# Altium footprint library BM1397_TESTBED.PcbLib: 24 footprints (part 1 of 2)
Each footprint in its own frame and in the unit in brackets; x right, y up, seen from the top. Pads: shape width x height; smd on the part's side, far side on the other; paste and mask are expansions set on the pad; w line width, h text height; cw(c..) or ccw(c..) is an arc to the next point about the centre after c.
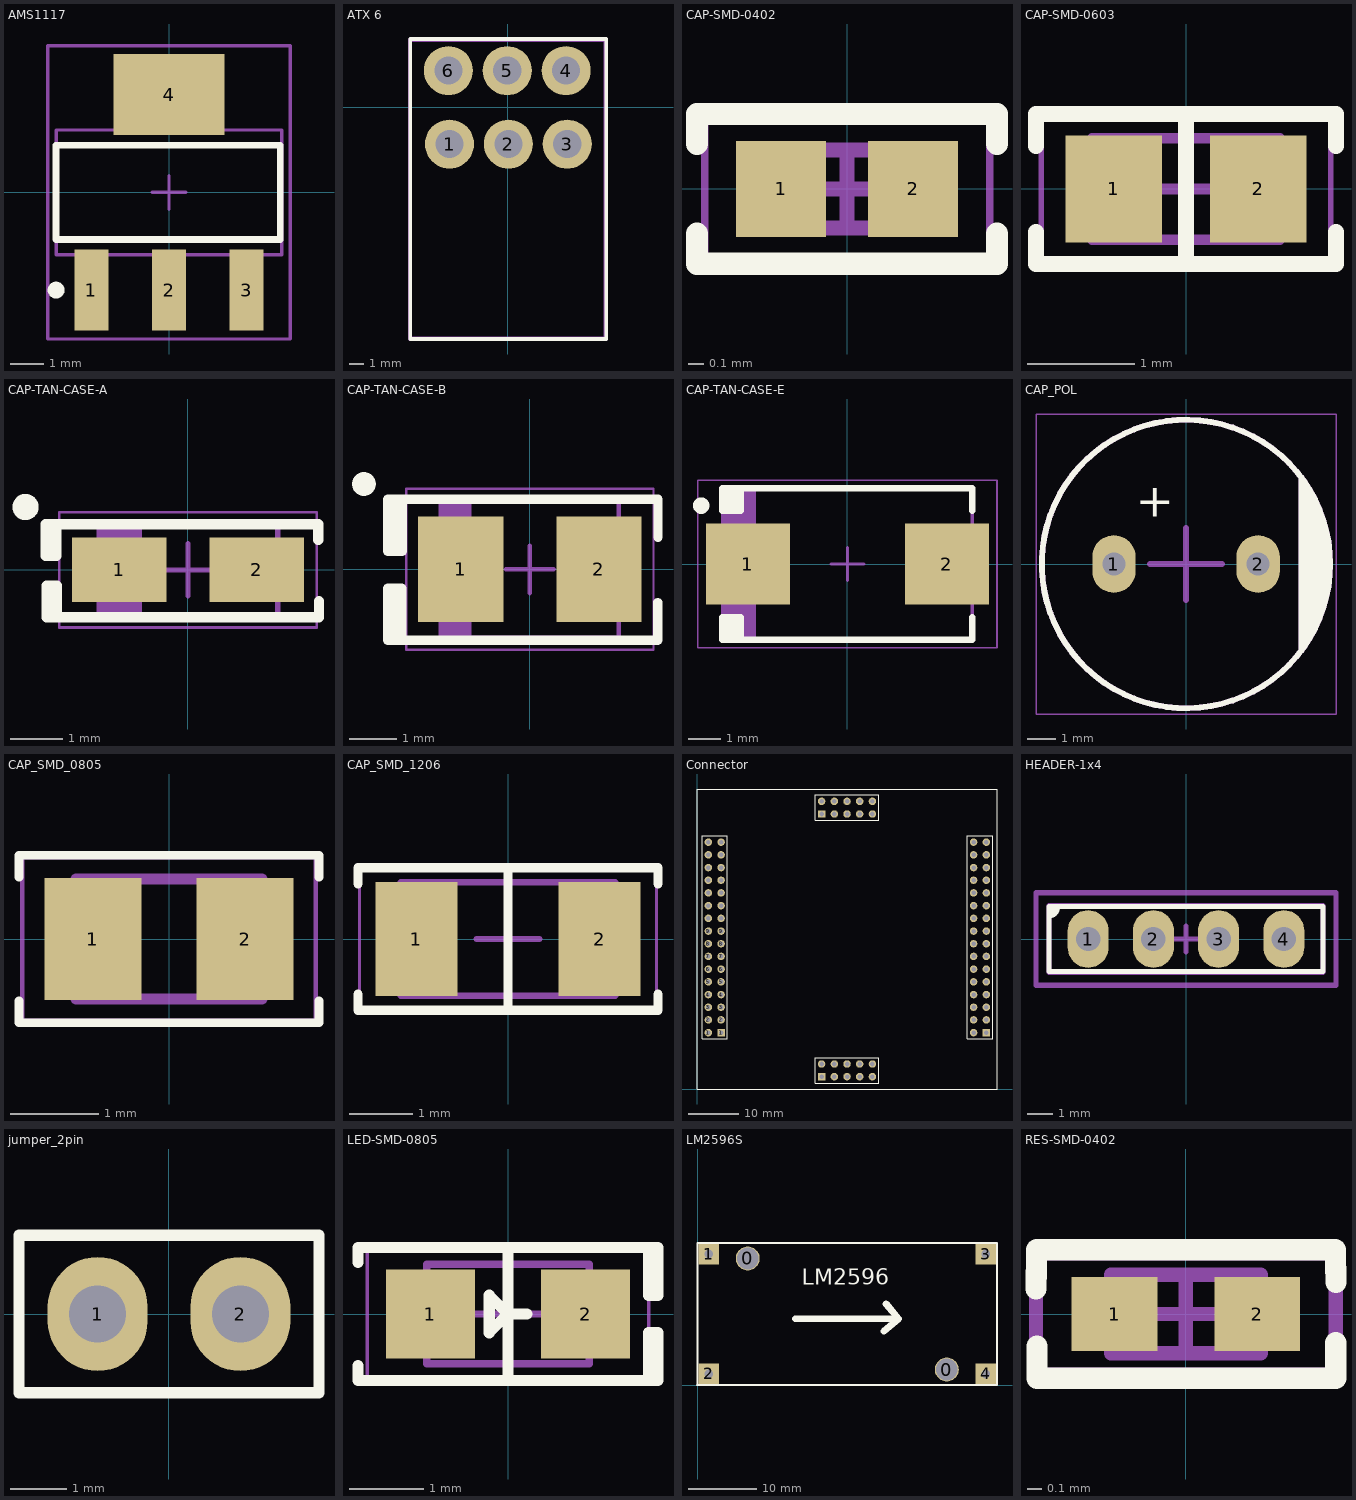
[diagram p0: the footprints below, top view; thin cyan lines are the x and y axes]

## AMS1117 [mm]
pads (4):
  rect 1x2.4 smd: 1(-2.3,-2.9) 2(0,-2.9) 3(2.3,-2.9)
  rect 3.3x2.4 smd: 4(0,2.9)
Top Overlay:
  circle w0.25: c-3.35,-2.9 r0.125
  lines w0.2: -3.35,-1.4 3.302,-1.4 3.302,1.4 -3.35,1.4 -3.35,-1.4
Mechanical 13:
  lines w0.1: -3.35,-1.85 3.35,-1.85 3.35,1.85 -3.35,1.85 -3.35,-1.85
Mechanical 15:
  lines w0.1: -0.5,0 0.5,0 ; 0,-0.5 0,0.5 ; -3.6,-4.35 3.6,-4.35 3.6,4.35 -3.6,4.35 -3.6,-4.35
3D body "TO-223.STEP": height 1.64, standoff -0.04, extent -3.242,-3.49 3.242,3.49

## ATX 6 [mm]
pads (6):
  round 3.5 hole 2: 1(-4.159,-2.623) 2(0.041,-2.623) 3(4.24,-2.623) 4(4.16,2.623) 5(-0.04,2.623) 6(-4.24,2.623)
Top Overlay:
  lines w0.254: -6.959,-16.523 7.011,-16.523 7.011,4.877 -6.959,4.877 -6.959,-16.523
Mechanical 15:
  lines w0.3: -6.985,-16.51 6.985,-16.51 6.985,4.826 -6.985,4.826 -6.985,-16.51
3D body "User Library-6PIN_PWR_PCIe.STEP": height 11.1, standoff -3.6, extent -7.023,-15.494 7.277,2.936

## CAP-SMD-0402 [mm]
pads (2):
  rect 0.6x0.64 smd: 1(-0.44,0) 2(0.44,0)
Top Overlay:
  lines w0.15: -1,-0.3 -1,-0.5 1,-0.5 1,-0.3 ; -1,0.3 -1,0.5 1,0.5 1,0.3
Mechanical 13:
  lines w0.1: -0.515,-0.26 0.515,-0.26 0.515,0.26 -0.515,0.26 -0.515,-0.26
Mechanical 15:
  lines w0.05: -0.95,-0.5 0.95,-0.5 0.95,0.5 -0.95,0.5 -0.95,-0.5
  lines w0.1: -0.26,0 0.26,0 ; 0,-0.26 0,0.26
3D body "0402 cap.STEP": height 0.52, standoff 0, extent -0.5,-0.262 0.5,0.262

## CAP-SMD-0603 [mm]
pads (2):
  rect 0.9x1 smd: 1(-0.675,0) 2(0.675,0)
Top Overlay:
  lines w0.15: -1.4,-0.4 -1.4,-0.7 1.4,-0.7 1.4,-0.4 ; -1.4,0.4 -1.4,0.7 1.4,0.7 1.4,0.4 ; 0,-0.7 0,0.7
Mechanical 13:
  lines w0.1: -0.875,-0.475 0.875,-0.475 0.875,0.475 -0.875,0.475 -0.875,-0.475
Mechanical 15:
  lines w0.05: -1.35,-0.75 1.35,-0.75 1.35,0.75 -1.35,0.75 -1.35,-0.75
  lines w0.1: -0.475,0 0.475,0 ; 0,-0.475 0,0.475
3D body "0603 cap.STEP": height 0.82, standoff 0, extent -0.8,-0.412 0.8,0.412

## CAP-TAN-CASE-A [mm]
pads (2):
  rect 1.8x1.23 smd: 1(-1.31,0) 2(1.31,0)
Top Overlay:
  circle w0.25: c-3.1,1.2 r0.125
  rectangle: -2.717,0.273 -2.567,0.873
  rectangle: -2.7,-0.9 -2.55,-0.3
  lines w0.2: -2.517,0.873 -2.517,0.273 -2.717,0.273 -2.717,0.873 2.483,0.873 2.483,0.573 ; -2.5,-0.9 -2.5,-0.3 -2.7,-0.3 -2.7,-0.9 2.5,-0.9 2.5,-0.6
Mechanical 13:
  rectangle: -1.715,-0.85 -0.875,0.85
  lines w0.1: -1.7,-0.85 -1.7,0.85 1.715,0.85 1.715,-0.85 -1.7,-0.85
Mechanical 15:
  lines w0.05: -2.46,-1.1 2.46,-1.1 2.46,1.1 -2.46,1.1 -2.46,-1.1
  lines w0.1: -0.5,0 0.5,0 ; 0,-0.5 0,0.5
3D body "CAP TANT - 1206 - 1.7MM.step": height 1.7, standoff 0, extent -1.715,-0.85 1.715,0.85

## CAP-TAN-CASE-B [mm]
pads (2):
  rect 1.8x2.23 smd: 1(-1.46,0) 2(1.46,0)
Top Overlay:
  circle w0.25: c-3.5,1.8 r0.125
  region: -3,-0.4 -3,-1.5 -2.7,-1.5 -2.7,-0.4
  region: -2.995,0.38 -2.995,1.48 -2.695,1.48 -2.695,0.38
  lines w0.2: 2.7,-0.7 2.7,-1.5 -2.7,-1.5 ; 2.705,0.68 2.705,1.48 -2.695,1.48 ; -2.7,-1.5 -2.7,-0.4 -3,-0.4 -3,-1.5 -2.7,-1.5 ; -2.695,1.48 -2.695,0.38 -2.995,0.38 -2.995,1.48 -2.695,1.48
Mechanical 13:
  rectangle: -1.875,-1.45 -1.225,1.45
  lines w0.1: -1.875,-1.45 1.875,-1.45 1.875,1.45 -1.875,1.45 -1.875,-1.45
Mechanical 15:
  lines w0.05: -2.61,-1.7 2.61,-1.7 2.61,1.7 -2.61,1.7 -2.61,-1.7
  lines w0.1: -0.5,0 0.5,0 ; 0,-0.5 0,0.5
3D body "CAP TANT - 1411 - 2.0MM.step": height 2, standoff 0, extent -1.865,-1.45 1.865,1.45

## CAP-TAN-CASE-E [mm]
pads (2):
  rect 2.55x2.45 smd: 1(-3.025,0) 2(3.025,0)
Top Overlay:
  circle w0.25: c-4.45,1.775 r0.125
  rectangle: -3.8,1.625 -3.25,2.3
  rectangle: -3.8,-2.3 -3.25,-1.625
  lines w0.2: -3.25,-2.3 -3.25,-1.625 -3.8,-1.625 -3.8,-2.3 3.8,-2.3 3.8,-1.625 ; -3.25,2.3 -3.25,1.625 -3.8,1.625 -3.8,2.3 3.8,2.3 3.8,1.625
Mechanical 13:
  rectangle: -3.8,-2.3 -2.778,2.3
  lines w0.1: -3.8,-2.3 3.8,-2.3 3.8,2.3 -3.8,2.3 -3.8,-2.3
Mechanical 15:
  lines w0.05: -4.55,-2.55 4.55,-2.55 4.55,2.55 -4.55,2.55 -4.55,-2.55
  lines w0.1: -0.5,0 0.5,0 ; 0,-0.5 0,0.5
3D body "User Library-Case Code KEMET V.STEP": height 2, standoff 0, extent -3.81,-2.3 3.79,2.3

## CAP_POL [mm]
pads (2):
  oval 1.5x2 hole 0.8: 1(-2.5,0) 2(2.5,0)
Top Overlay:
  circle w0.2: c0,0 r5
  region: 4,3 4.5,2.25 5,0.75 5,-0.75 4.75,-1.5 4.25,-2.75 4,-3
  lines w0.2: 4,-3 4,3
  text "+" at -1.75,1.25 h2
Mechanical 13:
  circle w0.2: c0,0 r5
  lines w0.2: 4,-3 4,3
Mechanical 15:
  lines w0.05: -5.2,-5.2 -5.2,5.2 5.2,5.2 5.2,-5.2 -5.2,-5.2
  lines w0.2: -1.25,0 1.25,0 ; 0,-1.25 0,1.25
3D body "CAP ALTH D-10MM L-5.0MM H-12.5MM.STEP": height 12.7, standoff -3, extent -5,-4.999 5,4.999

## CAP_SMD_0805 [mm]
pads (2):
  rect 1.1x1.38 smd: 1(-0.863,0) 2(0.863,0)
Top Overlay:
  lines w0.1: -1.7,-0.7 -1.7,-0.95 1.7,-0.95 1.7,-0.7 ; -1.7,0.7 -1.7,0.95 1.7,0.95 1.7,0.7
Mechanical 13:
  lines w0.127: -1.05,-0.68 1.05,-0.68 1.05,0.68 -1.05,0.68 -1.05,-0.68
Mechanical 15:
  lines w0.05: -1.665,-0.925 1.665,-0.925 1.665,0.925 -1.665,0.925 -1.665,-0.925
3D body "CL21A226MQQNNNG.STEP": height 0.63, standoff -0.63, extent -1,-0.675 1,0.675

## CAP_SMD_1206 [mm]
pads (2):
  rect 1.3x1.8 smd: 1(-1.45,0) 2(1.45,0)
Top Overlay:
  lines w0.15: -2.375,-0.875 -2.375,-1.125 2.375,-1.125 2.375,-0.875 ; -2.375,0.875 -2.375,1.125 2.375,1.125 2.375,0.875 ; 0,-1.125 0,1.125
Mechanical 13:
  lines w0.1: -1.7,-0.9 -1.7,0.9 1.7,0.9 1.7,-0.9 -1.7,-0.9
Mechanical 15:
  lines w0.05: -2.35,-1.15 -2.35,1.15 2.35,1.15 2.35,-1.15 -2.35,-1.15
  lines w0.1: -0.5,0 0.5,0 ; 0,-0.5 0,0.5
3D body "CAP 1206-1.2mm.STEP": height 1.2, standoff 0, extent -1.6,-0.8 1.6,0.8

## Connector [mm]
pads (84):
  round 1.5 hole 0.9: 1(2.27,11.27) 2(2.27,13.81) 2(4.81,13.81) 3(2.27,16.35) 3(4.81,16.35) 4(2.27,18.89) 4(4.81,18.89) 5(2.27,21.43) 5(4.81,21.43) 6(2.27,23.97) 6(4.81,23.97) 7(2.27,26.51) 7(4.81,26.51) 8(2.27,29.05) 8(4.81,29.05) 9(2.27,31.59) 9(4.81,31.59) 10(2.27,34.13) 10(4.81,34.13) 11(2.27,36.67) 11(4.81,36.67) 12(2.27,39.21) 12(4.81,39.21) 13(2.27,41.75) 13(4.81,41.75) 14(2.27,44.29) 14(4.81,44.29) 15(2.27,46.83) 15(4.81,46.83) 16(2.27,49.37) 16(4.81,49.37) 17(55.317,49.37) 17(57.857,49.37) 18(55.317,46.83) 18(57.857,46.83) 19(55.317,44.29) 19(57.857,44.29) 20(55.317,41.75) 20(57.857,41.75) 21(55.317,39.21) 21(57.857,39.21) 22(55.317,36.67) 22(57.857,36.67) 23(55.317,34.13) 23(57.857,34.13) 24(55.317,31.59) 24(57.857,31.59) 25(55.317,29.05) 25(57.857,29.05) 26(55.317,26.51) 26(57.857,26.51) 27(55.317,23.97) 27(57.857,23.97) 28(55.317,21.43) 28(57.857,21.43) 29(55.317,18.89) 29(57.857,18.89) 30(55.317,16.35) 30(57.857,16.35) 31(55.317,13.81) 31(57.857,13.81) 32(55.317,11.27) 33(24.92,57.54) 33(27.46,55) 33(27.46,57.54) 33(30,55) 33(30,57.54) 33(32.54,55) 33(32.54,57.54) 33(35.08,55) 33(35.08,57.54) 34(24.92,5) 34(27.46,2.46) 34(27.46,5) 34(30,2.46) 34(30,5) 34(32.54,2.46) 34(32.54,5) 34(35.08,2.46) 34(35.08,5)
  rect 1.5x1.5 hole 0.9: 1(4.81,11.27) 32(57.857,11.27) 33(24.92,55) 34(24.92,2.46)
Top Overlay:
  lines w0.2: 0,0 0,60 60,60 60,0 0,0 ; 1,10 6.08,10 6.08,50.64 1,50.64 1,10 ; 23.65,1.19 23.65,6.27 36.35,6.27 36.35,1.19 23.65,1.19 ; 23.65,53.73 23.65,58.81 36.35,58.81 36.35,53.73 23.65,53.73 ; 54.047,10 59.127,10 59.127,50.64 54.047,50.64 54.047,10
3D body "Connector.step": height 10.2, standoff 9.59, extent 0,0.127 59.944,60.071

## HEADER-1x4 [mm]
pads (4):
  oval 1.6x2.25 hole 0.95: 1(-3.81,0) 2(-1.27,0) 3(1.27,0) 4(3.81,0)
Top Overlay:
  region: -5.34,1.27 -5,1.27 -5,1.1 -5.2,0.9 -5.34,0.9
  lines w0.2: -5.34,0.9 ccw(c-5.34,1.24) -5,1.24 -5,1.27 ; -5.34,-1.27 -5.34,1.27 5.34,1.27 5.34,-1.27 -5.34,-1.27
Mechanical 13:
  lines w0.2: -5.34,-1.3 5.34,-1.3 5.34,1.3 -5.34,1.3 -5.34,-1.3
Mechanical 15:
  lines w0.2: -0.5,0 0.5,0 ; 0,-0.5 0,0.5 ; -5.84,-1.8 -5.84,1.8 5.84,1.8 5.84,-1.8 -5.84,-1.8
3D body "Samtec-SSW-104-03-T-S.STEP": height 8.51, standoff -10.01, extent -5.334,-1.206 5.334,1.207

## jumper_2pin [mil]
pads (2):
  oval 70x80 hole 40: 1(-50,0) 2(50,0)
Top Overlay:
  lines w7.87: -105.12,-55.12 105.12,-55.12 105.12,55.12 -105.12,55.12 -105.12,-55.12
3D body "jumper_akspt_g-grey.STEP": height 337.4, standoff 102.36, extent -98.03,-48.03 98.03,48.03
3D body "header02.STEP": height 330, standoff -100, extent -100,-50 100,50

## LED-SMD-0805 [mm]
pads (2):
  rect 1.2x1.2 smd: 1(-1.05,0) 2(1.05,0)
Top Overlay:
  lines w0.15: -2.032,-0.7 -2.032,-0.9 1.905,-0.9 ; -2.032,0.7 -2.032,0.9 1.905,0.9 ; 0,-0.9 0,0.9 ; 0.254,0 0,0 ; 0,0 -0.254,-0.254 -0.254,0.254 0,0 ; 1.905,-0.9 1.905,-0.254 2.032,-0.254 2.032,-0.9 1.905,-0.9 ; 1.905,0.9 1.905,0.254 2.032,0.254 2.032,0.9 1.905,0.9
Mechanical 13:
  lines w0.1: -1.1,-0.675 1.1,-0.675 1.1,0.675 -1.1,0.675 -1.1,-0.675
Mechanical 15:
  lines w0.05: -1.905,-0.95 1.905,-0.95 1.905,0.95 -1.905,0.95 -1.905,-0.95
  lines w0.1: -0.5,0 0.5,0 ; 0,-0.5 0,0.5
3D body "LED 0805 Base RED.STEP": height 0.4, standoff 0, extent -1,-0.625 1,0.625
3D body "LED 0805 Lens RED.STEP": height 0.9, standoff 0.3, extent -0.65,-0.625 0.65,0.625

## LM2596S [mm]
pads (6):
  round 3.5 hole 3.2: 0(7.35,18.56) 0(36.5,2.29)
  rect 3x3 hole 1.3: 1(1.65,19.2) 2(1.65,1.65) 3(42.2,19.2) 4(42.2,1.65)
Top Overlay:
  lines w0.3: -0.025,0.051 -0.076,0.051 -0.076,0 43.85,0 43.85,20.85 0,20.85 0,0
  lines w1: 14.326,9.728 29.439,9.728 ; 27.28,7.899 29.439,9.728 ; 27.61,11.887 29.439,9.728
  text "LM2596" at 15.291,13.894 h4
3D body "LM2596 DC-DC Buck Converter Module.STEP": height 12.68, standoff -0.97, extent 0,0.025 44,21.025

## RES-SMD-0402 [mm]
pads (2):
  rect 0.6x0.52 smd: 1(-0.5,0) 2(0.5,0)
Top Overlay:
  lines w0.15: -1.05,0.175 -1.045,0.45 1.048,0.45 1.052,0.223 ; -1.043,-0.225 -1.043,-0.45 1.05,-0.45 1.05,-0.2
Mechanical 13:
  lines w0.1: -0.525,-0.275 0.525,-0.275 0.525,0.275 -0.525,0.275 -0.525,-0.275
Mechanical 15:
  lines w0.1: -0.275,0 0.275,0 ; 0,-0.275 0,0.275 ; -1.05,-0.425 1.05,-0.425 1.05,0.425 -1.05,0.425 -1.05,-0.425
3D body "0402 resistor.STEP": height 0.35, standoff 0, extent -0.525,-0.25 0.475,0.25